# EAGLE library part LT3085EMS8E (library IntegratedLib)
Adjustable 500mA Single Resistor Low Dropout Regulator (8-MSOP-EP)
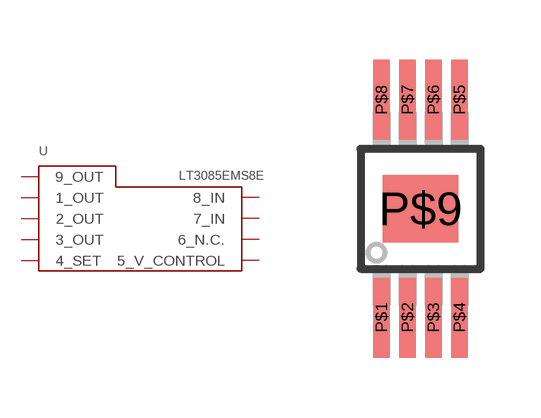
[diagram p44: symbol with the pads of MS8E; footprint MS8E]

Designator prefix U

## LT3085EMS8E (FABRICANTE: ANALOG; PARTNUMBER: LT3085EMS8E; TIPO: CIRCUITO INTEGRADO)  [MS8E]
P$1  1_OUT  out
P$2  2_OUT  out
P$3  3_OUT  out
P$4  4_SET
P$5  5_V_CONTROL
P$6  6_N.C.  nc
P$7  7_IN  in
P$8  8_IN  in
P$9  9_OUT  out

## Footprint MS8E (pad centres in mm)
smd 0.42 x 2: P$1 -0.975,-2.725; P$2 -0.325,-2.725; P$3 0.325,-2.725; P$4 0.975,-2.725; P$5 0.975,2.725; P$6 0.325,2.725; P$7 -0.325,2.725; P$8 -0.975,2.725
smd 1.88 x 1.68: P$9 0,0